# EAGLE library part RESISTOR_ARRAY (library passive)
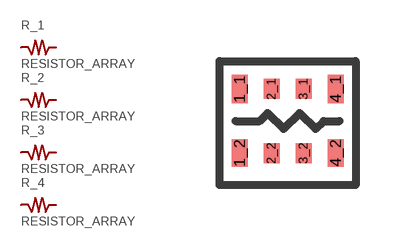
[diagram p0: symbol with the pads of EXBU38; footprint EXBU38]

Designator prefix R; gates _1=RESISTOR _2=RESISTOR _3=RESISTOR _4=RESISTOR

## RESISTOR_ARRAY  [EXBU38]
1_1  _1:P$1  pas
1_2  _1:P$2  pas
2_1  _2:P$1  pas
2_2  _2:P$2  pas
3_1  _3:P$1  pas
3_2  _3:P$2  pas
4_1  _4:P$1  pas
4_2  _4:P$2  pas

## Footprint EXBU38 (pad centres in mm)
smd 0.4 x 0.7: 1_1 -1.6,1.6; 1_2 -1.6,0; 4_1 0.8,1.6; 4_2 0.8,0
smd 0.4 x 0.5: 2_1 -0.8,1.6; 2_2 -0.8,0; 3_1 0,1.6; 3_2 0,0